# Altium footprint library SOD-323-2.PcbLib: 1 footprints
Each footprint in its own frame and in the unit in brackets; x right, y up, seen from the top. Pads: shape width x height; smd on the part's side, far side on the other; paste and mask are expansions set on the pad; w line width, h text height; cw(c..) or ccw(c..) is an arc to the next point about the centre after c.
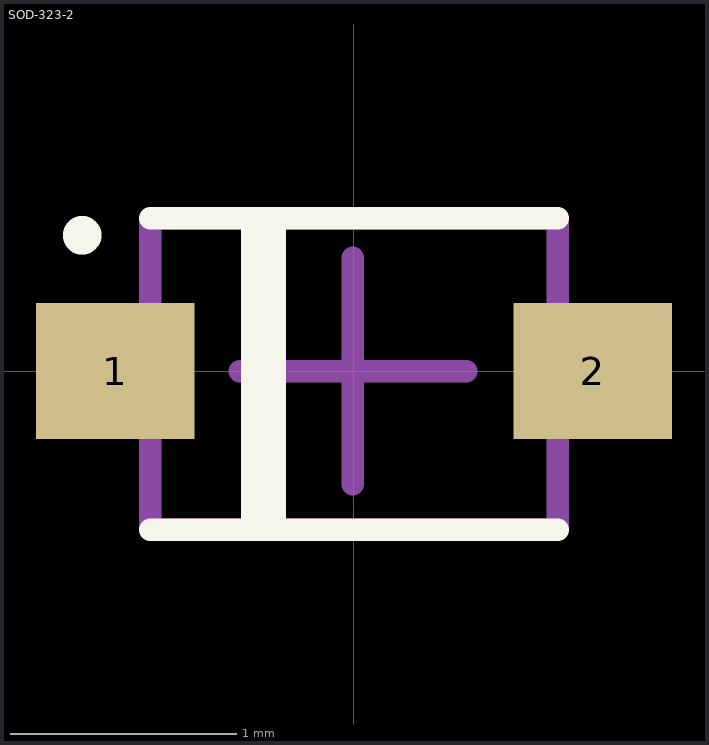
[diagram p0: the footprint, top view; thin cyan lines are the x and y axes]

## SOD-323-2 [mm] "SODFL, 2-Leads, Body 1.30x2.60mm, IPC Medium Density"
height 0.9
pads (2):
  rect 0.7x0.6 smd mask+0.051: 1(-1.055,0) 2(1.055,0)
Top Overlay:
  circle w0.15: c-1.2,0.6 r0.01
  lines w0.1: -0.9,-0.7 0.9,-0.7 ; -0.9,0.675 0.9,0.675
  lines w0.2: -0.4,-0.65 -0.4,0.625
Top Designator:
  text ".Designator" at -7.618,-0.52 h1.52
3D Body:
  lines w0.1: -0.9,-0.7 0.9,-0.7 0.9,0.675 -0.9,0.675 -0.9,-0.7
Center Cross:
  lines w0.1: -0.505,0 0.495,0 ; -0.005,-0.5 -0.005,0.5
3D body "SOD323.step": height 1.16, standoff 0.01, extent -1.35,-0.723 1.35,0.723